# Altium footprint library SWITCH_TACT_PUSHB.PcbLib: 55 footprints (part 2 of 4)
Each footprint in its own frame and in the unit in brackets; x right, y up, seen from the top. Pads: shape width x height; smd on the part's side, far side on the other; paste and mask are expansions set on the pad; w line width, h text height; cw(c..) or ccw(c..) is an arc to the next point about the centre after c.
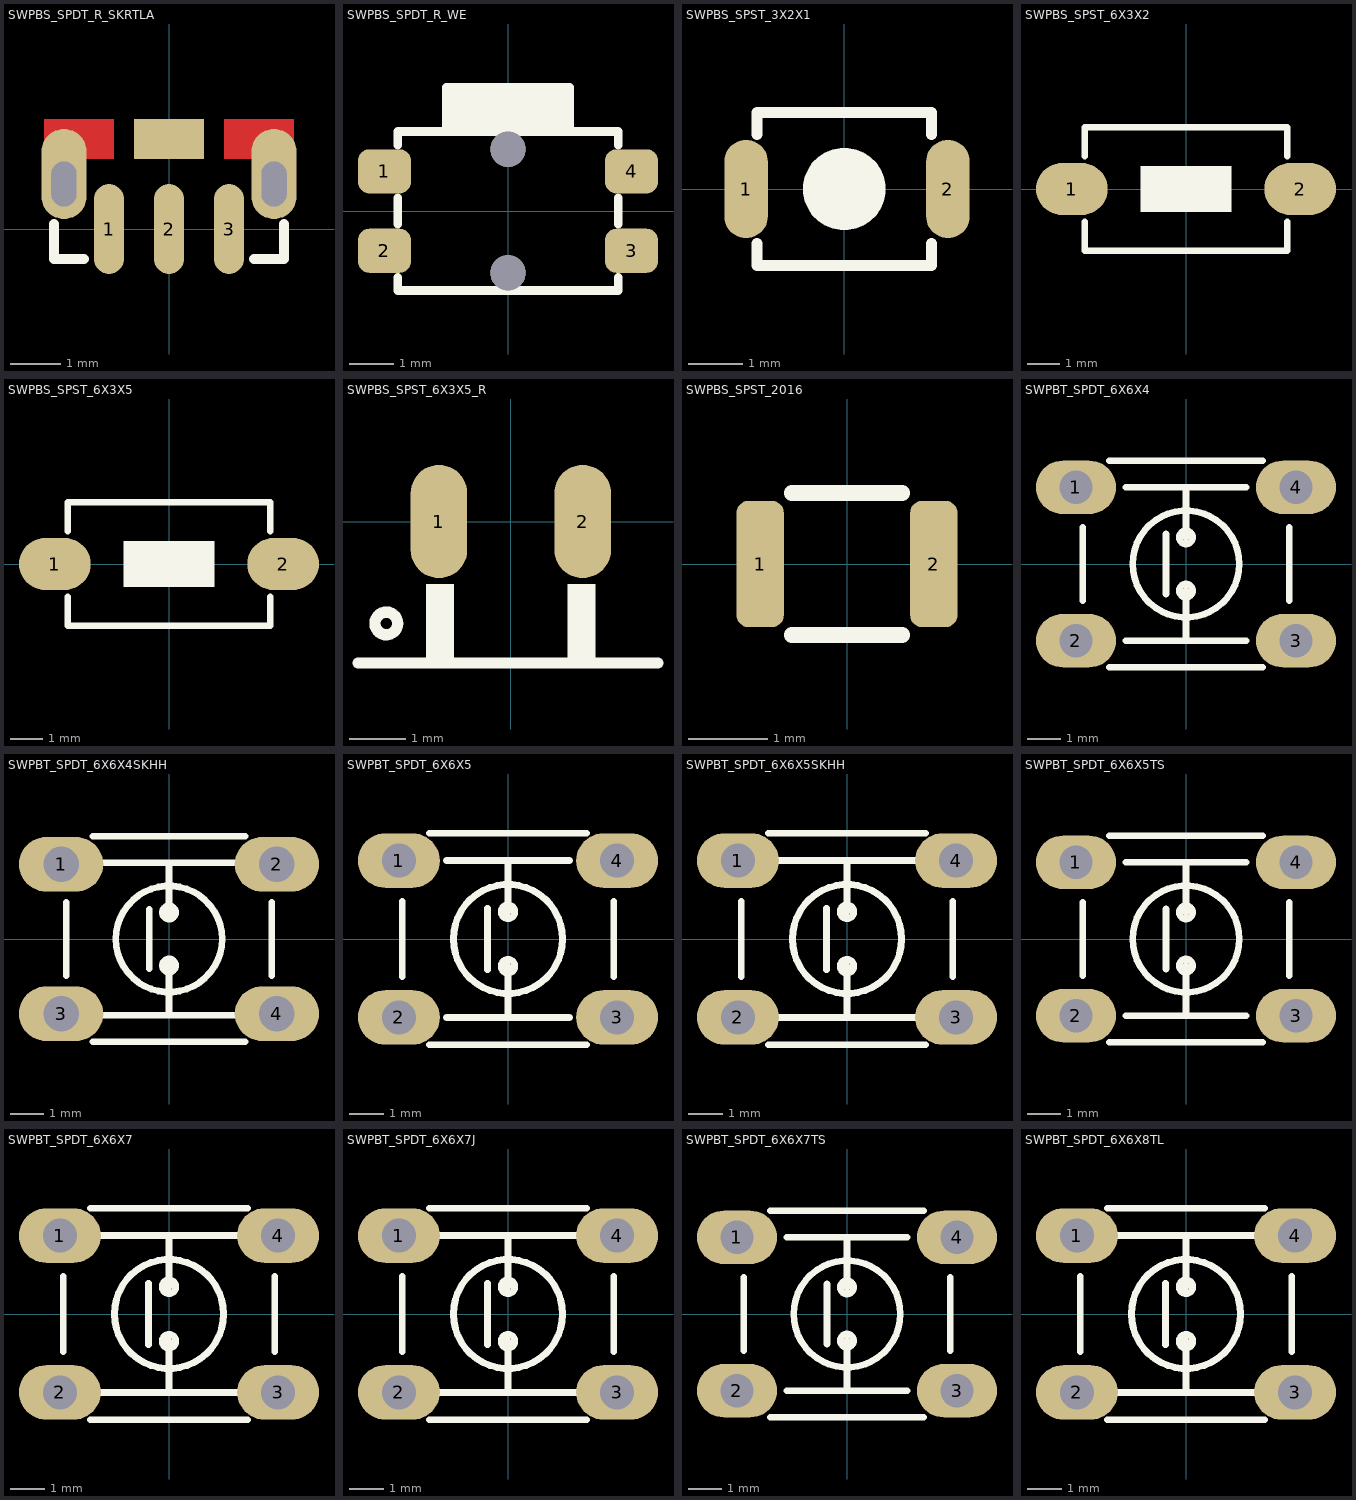
[diagram p1: the footprints below, top view; thin cyan lines are the x and y axes]

## SWPBS_SPDT_R_SKRTLA [mm] "SWITCH, PUSHBUTTON, SMD, SPDT, RIGHT or Side"
pads (6):
  oval 0.6x1.8 smd paste+0 mask+0.05: 1(-1.2,0) 2(0,0) 3(1.2,0)
  oval 0.9x1.8 hole 0.5 slot 0.9 at 90 deg copper offset 0,0.2 mask+0: ""(-2.1,0.9) ""(2.1,0.9)
  rect 1.4x0.8 smd: ""(0,1.8)
Top Layer:
  rectangle: -2.5,1.4 -1.1,2.2
  region: 2.5,2.2 1.1,2.2 1.1,1.4 2.5,1.4
Top Overlay:
  lines w0.2: -2.3,0.1 -2.3,-0.6 -1.7,-0.6 ; 1.7,-0.6 2.3,-0.6 2.3,0.1
3D body "SKRTLA.STEP": height 3.35, standoff -0.45, extent -2.25,-0.6 2.25,2.95

## SWPBS_SPDT_R_WE [mm] "SWITCH, PUSHBUTTON, SMD, SPDT, RIGHT"
pads (6):
  rrect50% 1.2x1 smd mask+0.1: 1(-2.8,0.9) 2(-2.8,-0.9) 3(2.8,-0.9) 4(2.8,0.9)
  round 0.8 hole 0.8 unplated: ""(0,-1.4) ""(0,1.4)
Top Overlay:
  rectangle: -1.4,1.8 1.4,2.8
  lines w0.2: -2.5,-1.5 -2.5,-1.8 2.5,-1.8 2.5,-1.5 ; -2.5,-0.3 -2.5,0.3 ; -2.5,1.5 -2.5,1.8 2.5,1.8 2.5,1.5 ; -1.4,1.8 -1.4,2.8 1.4,2.8 1.4,1.8 ; 2.5,-0.3 2.5,0.3
3D body "436331045822 (rev1).stp": height 1.65, standoff -0.5, extent -3.2,-1.75 3.2,2.75

## SWPBS_SPST_3X2X1 [mm] "SWITCH, PUSHBUTTON, SMD, SPST, 3X2.5mm"
height 1.2
pads (2):
  oval 0.8x1.8 smd mask+0.1: 1(-1.8,0) 2(1.9,0)
Top Overlay:
  region: -0.75,0 -0.75,0.074 -0.721,0.219 -0.665,0.355 -0.583,0.478 -0.478,0.583 -0.355,0.665 -0.219,0.721 -0.074,0.75 0,0.75 0.074,0.75 0.219,0.721 0.355,0.665 0.478,0.583 0.583,0.478 0.665,0.355 0.721,0.219 0.75,0.074 0.75,0 0.75,-0.074 0.721,-0.219 0.665,-0.355 0.583,-0.478 0.478,-0.583 0.355,-0.665 0.219,-0.721 0.074,-0.75 0,-0.75 -0.074,-0.75 -0.219,-0.721 -0.355,-0.665 -0.478,-0.583 -0.583,-0.478 -0.665,-0.355 -0.721,-0.219 -0.75,-0.074
  lines w0.2: -1.6,-1 -1.6,-1.4 1.6,-1.4 1.6,-1 ; -1.6,1 -1.6,1.4 1.6,1.4 1.6,1
3D body "User Library-OMRON B3U1000P.step": height 1.6, standoff 0, extent -2,-1.25 2,1.25

## SWPBS_SPST_6X3X2 [mm] "SWITCH, PUSHBUTTON, SMD, SPST, 6X3.5X2.5mm, RS-282G05A3, SKQYPA, 50000 Cycles"
height 5
pads (2):
  oval 2.2x1.6 smd mask+0.1: 1(-3.5,0) 2(3.5,0)
Top Overlay:
  region: 1.4,0.7 -1.4,0.7 -1.4,-0.7 1.4,-0.7
  lines w0.2: -3.1,-1 -3.1,-1.9 3.1,-1.9 3.1,-1 ; -3.1,1 -3.1,1.9 3.1,1.9 3.1,1
3D body "SKQYPA_43452.stp": height 2.5, standoff 0, extent -3.397,-1.858 3.397,1.859

## SWPBS_SPST_6X3X5 [mm] "SWITCH, PUSHBUTTON, SMD, SPST, 6X3.5mm, SKQMBBE010, 50000 Cycles, 1.57N Force"
height 5
pads (2):
  oval 2.2x1.6 smd mask+0.1: 1(-3.5,0) 2(3.5,0)
Top Overlay:
  region: 1.4,0.7 -1.4,0.7 -1.4,-0.7 1.4,-0.7
  lines w0.2: -3.1,-1 -3.1,-1.9 3.1,-1.9 3.1,-1 ; -3.1,1 -3.1,1.9 3.1,1.9 3.1,1
3D body "43685.stp": height 5, standoff 0, extent -3.649,-1.75 3.65,1.75

## SWPBS_SPST_6X3X5_R [mm] "SWITCH, PUSHBUTTON, SMD, SPST, RIGHT"
pads (2):
  oval 1x2 smd mask+0.1: 1(-1.27,0) 2(1.27,0)
Top Overlay:
  circle w0.2: c-2.2,-1.8 r0.2
  rectangle: -1.5,-2.5 -1,-1.1
  region: 1.5,-1.1 1,-1.1 1,-2.5 1.5,-2.5
  lines w0.2: -2.7,-2.5 2.6,-2.5
3D body "43685.stp": height 3.55, standoff 0.05, extent -3.649,-5 3.65,0

## SWPBS_SPST_2016 [mm] "SWITCH, PUSHBUTTON, SMD, SPDT, 2.1x1.65 mm, NanoT Series; Height 0.55mm ; 300,000 cycles ; 160gf"
height 0.55
pads (2):
  rrect50% 0.6x1.6 smd mask+0.075: 1(-1.1,0) 2(1.1,0)
Top Overlay:
  lines w0.2: -0.7,-0.9 0.7,-0.9 ; -0.7,0.9 0.7,0.9
3D body "NANOT160AS.stp": height 0.55, standoff 0, extent -1.25,-0.875 1.25,0.875

## SWPBT_SPDT_6X6X4 [mm] "SWITCH, PUSHBUTTON, THD, SPDT, TS-1143"
height 4.318
pads (4):
  oval 2.4x1.6 hole 1 mask+0.1: 1(-3.3,2.3) 2(-3.3,-2.3) 3(3.3,-2.3) 4(3.3,2.3)
Top Overlay:
  circle w0.2: c0,-0.8 r0.2
  circle w0.2: c0,0.8 r0.2
  circle w0.2: c0,0 r1.6
  lines w0.2: -3.1,-1.1 -3.1,1.1 ; -2.3,-3.1 2.3,-3.1 ; -2.3,3.1 2.3,3.1 ; -1.8,-2.3 1.8,-2.3 ; -1.8,2.3 1.8,2.3 ; -0.6,-0.9 -0.6,0.9 ; 0,-2.3 0,-0.8 ; 0,0.8 0,2.3 ; 3.1,-1.1 3.1,1.1
3D body "TS-1143-WP.stp": height 4.3, standoff -3.5, extent -4.134,-3.25 4.134,3.25

## SWPBT_SPDT_6X6X4SKHH [mm] "SWITCH, PUSHBUTTON, THD, SPDT, 6X6X4.3 mm Height ; 1,000,000 cycles ; 0.98N Force, SKHHAJA010"
height 4.3
pads (4):
  oval 2.54x1.651 hole 1.067 mask+0.1: 1(-3.25,2.25) 2(3.25,2.25) 3(-3.25,-2.25) 4(3.25,-2.25)
Top Overlay:
  circle w0.2: c0,-0.8 r0.2
  circle w0.2: c0,0.8 r0.2
  circle w0.2: c0,0 r1.6
  lines w0.2: -3.1,-1.1 -3.1,1.1 ; -2.3,-3.1 2.3,-3.1 ; -2.3,3.1 2.3,3.1 ; -2,-2.3 2,-2.3 ; -2,2.3 2,2.3 ; -0.6,-0.9 -0.6,0.9 ; 0,-2.3 0,-0.8 ; 0,0.8 0,2.3 ; 3.1,-1.1 3.1,1.1
3D body "SKHHAJ.STEP": height 4.33, standoff -3.47, extent -3.95,-3.1 3.95,3.1

## SWPBT_SPDT_6X6X5 [mm] "SWITCH, PUSHBUTTON, THD, SPDT, 6X6mm"
pads (4):
  oval 2.4x1.6 hole 1 mask+0.1: 1(-3.2,2.3) 2(-3.2,-2.3) 3(3.2,-2.3) 4(3.2,2.3)
Top Overlay:
  circle w0.2: c0,0 r1.6
  circle w0.2: c0,0.8 r0.2
  circle w0.2: c0,-0.8 r0.2
  lines w0.2: -3.1,-1.1 -3.1,1.1 ; -2.3,-3.1 2.3,-3.1 ; -2.3,3.1 2.3,3.1 ; -1.8,-2.3 1.8,-2.3 ; -1.8,2.3 1.8,2.3 ; -0.6,-0.9 -0.6,0.9 ; 0,-2.3 0,-0.8 ; 0,0.8 0,2.3 ; 3.1,-1.1 3.1,1.1
3D body "Tactile switch 6x6x5mm.step": height 5.01, standoff -3.51, extent -3.872,-3.015 3.871,3.015

## SWPBT_SPDT_6X6X5SKHH [mm] "SWITCH, PUSHBUTTON, THD, SPDT, 6X6X5.0 mm Height ; 1,000,000 cycles ; 0.98N Force, SKHHAKA010"
height 5
pads (4):
  oval 2.4x1.6 hole 1 mask+0.1: 1(-3.2,2.3) 2(-3.2,-2.3) 3(3.2,-2.3) 4(3.2,2.3)
Top Overlay:
  circle w0.2: c0,-0.8 r0.2
  circle w0.2: c0,0.8 r0.2
  circle w0.2: c0,0 r1.6
  lines w0.2: -3.1,-1.1 -3.1,1.1 ; -2.3,-3.1 2.3,-3.1 ; -2.3,3.1 2.3,3.1 ; -2,-2.3 2,-2.3 ; -2,2.3 2,2.3 ; -0.6,-0.9 -0.6,0.9 ; 0,-2.3 0,-0.8 ; 0,0.8 0,2.3 ; 3.1,-1.1 3.1,1.1
3D body "SKHHAK.STEP": height 5.03, standoff -3.47, extent -3.95,-3.1 3.95,3.1

## SWPBT_SPDT_6X6X5TS [mm] "SWITCH, PUSHBUTTON, THD, SPDT, TS-1150"
height 5.18
pads (4):
  oval 2.4x1.6 hole 1 mask+0.1: 1(-3.3,2.3) 2(-3.3,-2.3) 3(3.3,-2.3) 4(3.3,2.3)
Top Overlay:
  circle w0.2: c0,-0.8 r0.2
  circle w0.2: c0,0.8 r0.2
  circle w0.2: c0,0 r1.6
  lines w0.2: -3.1,-1.1 -3.1,1.1 ; -2.3,-3.1 2.3,-3.1 ; -2.3,3.1 2.3,3.1 ; -1.8,-2.3 1.8,-2.3 ; -1.8,2.3 1.8,2.3 ; -0.6,-0.9 -0.6,0.9 ; 0,-2.3 0,-0.8 ; 0,0.8 0,2.3 ; 3.1,-1.1 3.1,1.1
3D body "TS-1150-WP.stp": height 5, standoff -3.5, extent -4.134,-3.25 4.134,3.25

## SWPBT_SPDT_6X6X7 [mm] "SWITCH, PUSHBUTTON, THD, SPDT, 6X6X7.0 mm Height ; 1,000,000 cycles ; 0.98N Force, SKHHBVA010"
height 7
pads (4):
  oval 2.4x1.6 hole 1 mask+0.1: 1(-3.2,2.3) 2(-3.2,-2.3) 3(3.2,-2.3) 4(3.2,2.3)
Top Overlay:
  circle w0.2: c0,-0.8 r0.2
  circle w0.2: c0,0.8 r0.2
  circle w0.2: c0,0 r1.6
  lines w0.2: -3.1,-1.1 -3.1,1.1 ; -2.3,-3.1 2.3,-3.1 ; -2.3,3.1 2.3,3.1 ; -2,-2.3 2,-2.3 ; -2,2.3 2,2.3 ; -0.6,-0.9 -0.6,0.9 ; 0,-2.3 0,-0.8 ; 0,0.8 0,2.3 ; 3.1,-1.1 3.1,1.1
3D body "SKHHBV.STEP": height 7.03, standoff -3.47, extent -3.95,-3.1 3.95,3.1

## SWPBT_SPDT_6X6X7J [mm] "SWITCH, PUSHBUTTON, THD, SPDT, Joint Stem type; 7.3 mm Height ; 1,000,000 cycles ; 0.98N Force, SKHHCWA010"
height 7.3
pads (4):
  oval 2.4x1.6 hole 1 mask+0.1: 1(-3.2,2.3) 2(-3.2,-2.3) 3(3.2,-2.3) 4(3.2,2.3)
Top Overlay:
  circle w0.2: c0,-0.8 r0.2
  circle w0.2: c0,0.8 r0.2
  circle w0.2: c0,0 r1.6
  lines w0.2: -3.1,-1.1 -3.1,1.1 ; -2.3,-3.1 2.3,-3.1 ; -2.3,3.1 2.3,3.1 ; -2,-2.3 2,-2.3 ; -2,2.3 2,2.3 ; -0.6,-0.9 -0.6,0.9 ; 0,-2.3 0,-0.8 ; 0,0.8 0,2.3 ; 3.1,-1.1 3.1,1.1
3D body "SKHHCW.STEP": height 7.33, standoff -3.47, extent -3.95,-3.1 3.95,3.1

## SWPBT_SPDT_6X6X7TS [mm] "SWITCH, PUSHBUTTON, THD, SPDT, TS-1170"
height 6.985
pads (4):
  oval 2.4x1.6 hole 1 mask+0.1: 1(-3.3,2.3) 2(-3.3,-2.3) 3(3.3,-2.3) 4(3.3,2.3)
Top Overlay:
  circle w0.2: c0,0 r1.6
  circle w0.2: c0,0.8 r0.2
  circle w0.2: c0,-0.8 r0.2
  lines w0.2: -3.1,-1.1 -3.1,1.1 ; -2.3,-3.1 2.3,-3.1 ; -2.3,3.1 2.3,3.1 ; -1.8,-2.3 1.8,-2.3 ; -1.8,2.3 1.8,2.3 ; -0.6,-0.9 -0.6,0.9 ; 0,-2.3 0,-0.8 ; 0,0.8 0,2.3 ; 3.1,-1.1 3.1,1.1
3D body "TS-1170-WP.stp": height 7, standoff -3.5, extent -4.134,-3.25 4.134,3.25

## SWPBT_SPDT_6X6X8TL [mm] "SWITCH, PUSHBUTTON, THD, SPDT, 8.0mm, TL-1105-C"
height 8
pads (4):
  oval 2.4x1.6 hole 1 mask+0.1: 1(-3.2,2.3) 2(-3.2,-2.3) 3(3.2,-2.3) 4(3.2,2.3)
Top Overlay:
  circle w0.2: c0,0 r1.6
  circle w0.2: c0,0.8 r0.2
  circle w0.2: c0,-0.8 r0.2
  lines w0.2: -3.1,-1.1 -3.1,1.1 ; -2.3,-3.1 2.3,-3.1 ; -2.3,3.1 2.3,3.1 ; -2,-2.3 2,-2.3 ; -2,2.3 2,2.3 ; -0.6,-0.9 -0.6,0.9 ; 0,-2.3 0,-0.8 ; 0,0.8 0,2.3 ; 3.1,-1.1 3.1,1.1
3D body "TACT_SWITCH_TL-1105-C.STEP": height 8, standoff -3.5, extent -3.95,-3 3.95,3